# EAGLE library part MCP7384XX (library IC)
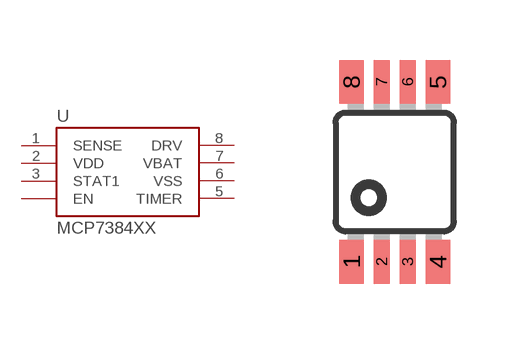
[diagram p80: symbol with the pads of MSOP8; footprint MSOP8]

Designator prefix U

## MCP7384XX  [MSOP8]
1  SENSE
2  VDD
3  STAT1
4  EN
5  TIMER
6  VSS
7  VBAT
8  DRV

## Footprint MSOP8 (pad centres in mm)
8M, 8-Lead, 0.118" Wide, Miniature Small Outline Package MSOP 8M-Package doc1097.pdf
smd 0.61 x 1.1: 1 -1.08,-2.25; 4 1.08,-2.25; 5 1.08,2.25; 8 -1.08,2.25
smd 0.4 x 1.1: 2 -0.325,-2.25; 3 0.325,-2.25; 6 0.325,2.25; 7 -0.325,2.25